# Altium footprint library myLIB.PcbLib: 144 footprints (part 4 of 9)
Each footprint in its own frame and in the unit in brackets; x right, y up, seen from the top. Pads: shape width x height; smd on the part's side, far side on the other; paste and mask are expansions set on the pad; w line width, h text height; cw(c..) or ccw(c..) is an arc to the next point about the centre after c.
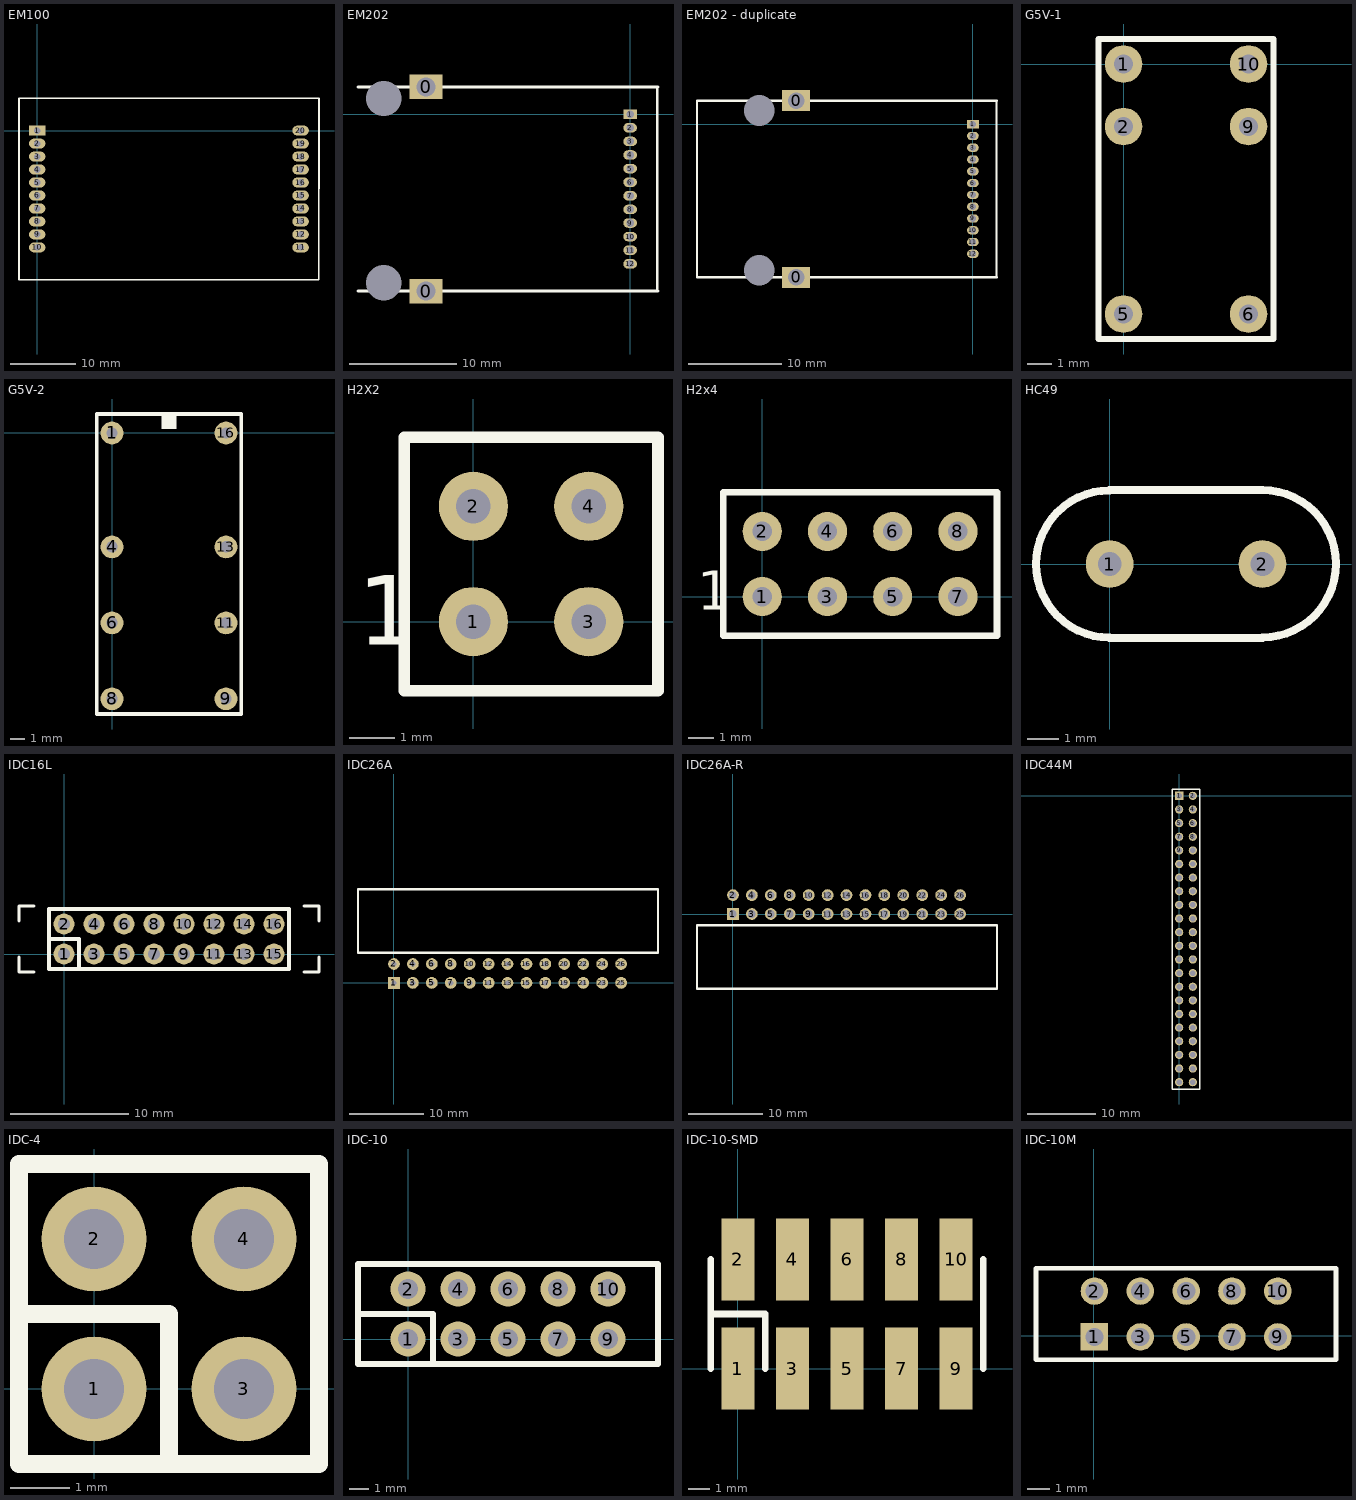
[diagram p3: the footprints below, top view; thin cyan lines are the x and y axes]

## EM100 [mil]
pads (20):
  rect 100x60 hole 40: 1(0,0)
  oval 100x60 hole 40: 2(0,-78.74) 3(0,-157.48) 4(0,-236.22) 5(0,-314.96) 6(0,-393.7) 7(0,-472.44) 8(0,-551.18) 9(0,-629.92) 10(0,-708.66) 11(1598.43,-708.66) 12(1598.43,-629.92) 13(1598.43,-551.18) 14(1598.43,-472.44) 15(1598.43,-393.7) 16(1598.43,-314.96) 17(1598.43,-236.22) 18(1598.43,-157.48) 19(1598.43,-78.74) 20(1598.43,0)
TopOverlay:
  lines w10: -110.24,-905.51 1708.66,-905.51 1710,196.85 -110.24,196.85 -110.24,-905.51

## EM202 [mil]
pads (16):
  round 0 hole 130: 0(-905.51,-619.68) 0(-905.51,57.69)
  rect 120x90 hole 70: 0(-750,-650) 0(-750,100)
  rect 50x35 hole 28: 1(0,0)
  oval 50x35 hole 28: 2(0,-50) 3(0,-100) 4(0,-150) 5(0,-200) 6(0,-250) 7(0,-300) 8(0,-350) 9(0,-400) 10(0,-450) 11(0,-500) 12(0,-550)
TopOverlay:
  lines w10: -1000,-650 102.36,-650 ; -1000,100 102.36,100 ; 100,-650 100,100

## EM202 - duplicate [mil]
pads (16):
  round 0 hole 130: 0(-905.51,-619.68) 0(-905.51,57.69)
  rect 120x90 hole 70: 0(-750,-650) 0(-750,100)
  rect 50x35 hole 28: 1(0,0)
  oval 50x35 hole 28: 2(0,-50) 3(0,-100) 4(0,-150) 5(0,-200) 6(0,-250) 7(0,-300) 8(0,-350) 9(0,-400) 10(0,-450) 11(0,-500) 12(0,-550)
TopOverlay:
  lines w10: -1170,-650 -1170,100 102.36,100 ; -1169.29,-650 102.36,-650 ; 100,-650 100,100

## G5V-1 [mil]
pads (6):
  round 60 hole 30: 1(0,0) 2(0,-100) 5(0,-400) 6(200,-400) 9(200,-100) 10(200,0)
TopOverlay:
  lines w10: -40,-440 -40,40 240,40 240,-440 -40,-440

## G5V-2 [mil]
pads (8):
  round 60 hole 30: 1(0,0) 4(0,-300) 6(0,-500) 8(0,-700) 9(300,-700) 11(300,-500) 13(300,-300) 16(300,0)
TopOverlay:
  region: 170,50 130,50 130,10 170,10
  lines w10: -40,-740 340,-740 340,50 -40,50 -40,-740

## H2X2 [mil]
pads (4):
  round 60 hole 30: 1(0,0) 2(0,100) 3(100,0) 4(100,100)
TopOverlay:
  lines w10: -60,-60 160,-60 160,160 -60,160 -60,-60
  text "1" at -100,-20 h60

## H2x4 [mil]
pads (8):
  round 60 hole 30: 1(0,0) 2(0,100) 3(100,0) 4(100,100) 5(200,0) 6(200,100) 7(300,0) 8(300,100)
TopOverlay:
  lines w10: -60,-60 -60,160 360,160 360,-60 -60,-60
  text "1" at -100,-20 h60

## HC49 [mil]
height 3
pads (2):
  round 60 hole 30: 1(0,0) 2(192.13,0)
TopOverlay:
  lines w10: 0,-93 192,-93 ; 0,-92.7 cw(c0,0) 0,92.7 ; 0,93 192,93 cw(c192,0.3) 192,-92.4

## IDC16L [mil]
pads (16):
  round 70 hole 40: 1(0,0) 2(0,100) 3(100,0) 4(100,100) 5(200,0) 6(200,100) 7(300,0) 8(300,100) 9(400,0) 10(400,100) 11(500,0) 12(500,100) 13(600,0) 14(600,100) 15(700,0) 16(700,100)
TopOverlay:
  lines w10: -150,-10 -150,-60 -100,-60 ; -150,110 -150,160 -100,160 ; 800,-60 850,-60 850,-10 ; 800,160 850,160 850,110
  lines w12: -50,50 50,50 50,-50 ; -50,-50 750,-50 750,150 -50,150 -50,-50

## IDC26A [mil]
pads (26):
  rect 62x62 hole 28: 1(0,0)
  round 62 hole 28: 2(0,100) 3(100,0) 4(100,100) 5(200,0) 6(200,100) 7(300,0) 8(300,100) 9(400,0) 10(400,100) 11(500,0) 12(500,100) 13(600,0) 14(600,100) 15(700,0) 16(700,100) 17(800,0) 18(800,100) 19(900,0) 20(900,100) 21(1000,0) 22(1000,100) 23(1100,0) 24(1100,100) 25(1200,0) 26(1200,100)
TopLayer:
  text "1" at -100,20 h100
BottomLayer:
  text "1" at -65,20 h100
TopOverlay:
  lines w12: -190,160 -190,495 1395,495 1395,160 -190,160

## IDC26A-R [mil]
pads (26):
  rect 62x62 hole 40: 1(0,0)
  round 62 hole 40: 2(0,100) 3(100,0) 4(100,100) 5(200,0) 6(200,100) 7(300,0) 8(300,100) 9(400,0) 10(400,100) 11(500,0) 12(500,100) 13(600,0) 14(600,100) 15(700,0) 16(700,100) 17(800,0) 18(800,100) 19(900,0) 20(900,100) 21(1000,0) 22(1000,100) 23(1100,0) 24(1100,100) 25(1200,0) 26(1200,100)
TopLayer:
  text "1" at -100,-25 h100
BottomLayer:
  text "1" at -65,-25 h100
TopOverlay:
  lines w12: -190,-395 1395,-395 1395,-60 -190,-60 -190,-395

## IDC44M [mm]
pads (44):
  rect 1.2x1.2 hole 0.8: 1(0,0)
  round 1.2 hole 0.8: 2(2,0) 3(0,-2) 4(2,-2) 5(0,-4) 6(2,-4) 7(0,-6) 8(2,-6) 9(0,-8) 10(2,-8) 11(0,-10) 12(2,-10) 13(0,-12) 14(2,-12) 15(0,-14) 16(2,-14) 17(0,-16) 18(2,-16) 19(0,-18) 20(2,-18) 21(0,-20) 22(2,-20) 23(0,-22) 24(2,-22) 25(0,-24) 26(2,-24) 27(0,-26) 28(2,-26) 29(0,-28) 30(2,-28) 31(0,-30) 32(2,-30) 33(0,-32) 34(2,-32) 35(0,-34) 36(2,-34) 37(0,-36) 38(2,-36) 39(0,-38) 40(2,-38) 41(0,-40) 42(2,-40) 43(0,-42) 44(2,-42)
TopOverlay:
  lines w0.2: -1,-43 -1,1 3,1 3,-43 -1,-43

## IDC-4 [mil]
pads (4):
  round 70 hole 40: 1(0,0) 2(0,100) 3(100,0) 4(100,100)
TopOverlay:
  lines w12: -50,50 50,50 50,-50 ; -50,-50 150,-50 150,150 -50,150 -50,-50

## IDC-10 [mil]
pads (10):
  round 70 hole 40: 1(0,0) 2(0,100) 3(100,0) 4(100,100) 5(200,0) 6(200,100) 7(300,0) 8(300,100) 9(400,0) 10(400,100)
TopOverlay:
  lines w12: -100,50 50,50 50,-50 ; -100,-50 500,-50 500,150 -100,150 -100,-50

## IDC-10-SMD [mil]
pads (10):
  rect 60x150 smd: 1(0,0) 2(0,200) 3(100,0) 4(100,200) 5(200,0) 6(200,200) 7(300,0) 8(300,200) 9(400,0) 10(400,200)
TopOverlay:
  lines w12: -50,0 -50,200 ; -50,100 50,100 50,0 ; 450,0 450,200

## IDC-10M [mm]
pads (10):
  rect 1.2x1.2 hole 0.8: 1(0.025,-0.051)
  round 1.2 hole 0.8: 2(0.025,1.949) 3(2.025,-0.051) 4(2.025,1.949) 5(4.025,-0.051) 6(4.025,1.949) 7(6.025,-0.051) 8(6.025,1.949) 9(8.025,-0.051) 10(8.025,1.949)
TopOverlay:
  lines w0.2: -2.524,-1.051 10.564,-1.051 10.564,2.949 -2.524,2.949 -2.524,-1.051